# Altium footprint library Time.PcbLib: 1 footprints
Each footprint in its own frame and in the unit in brackets; x right, y up, seen from the top. Pads: shape width x height; smd on the part's side, far side on the other; paste and mask are expansions set on the pad; w line width, h text height; cw(c..) or ccw(c..) is an arc to the next point about the centre after c.
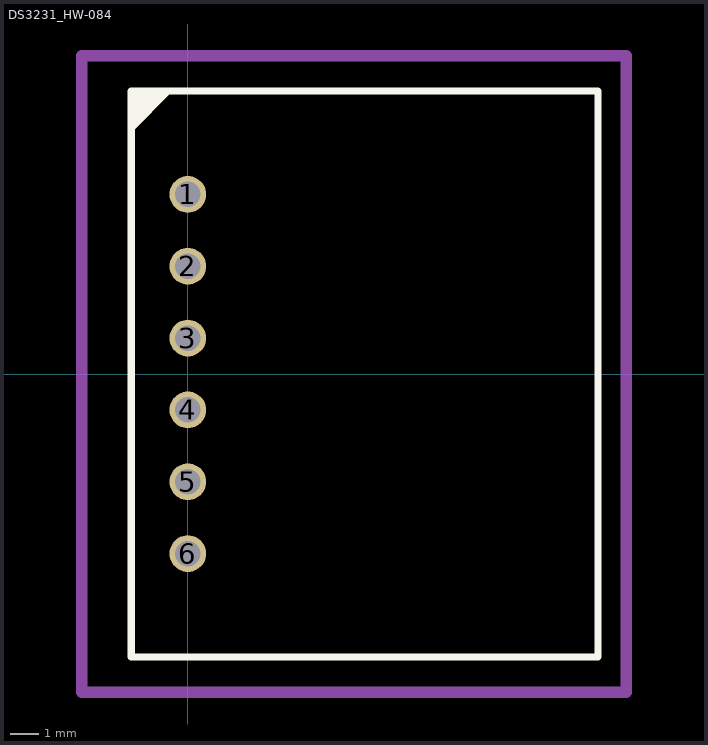
[diagram p0: the footprint, top view; thin cyan lines are the x and y axes]

## DS3231_HW-084 [mm]
pads (6):
  round 1.3 hole 0.9: 1(0,6.35) 2(0,3.81) 3(0,1.27) 4(0,-1.27) 5(0,-3.81) 6(0,-6.35)
Top Overlay:
  lines w0.05: -1.884,9.868 -1.887,9.871 -1.887,9.913 -1.853,9.947 -1.853,9.944 -1.949,9.848 -1.827,9.848 -1.748,9.927 -1.777,9.927 -1.932,9.772 -1.898,9.772 -1.76,9.91 -1.76,9.899 -1.918,9.741 -1.884,9.741 -1.742,9.882 -1.717,9.882 -1.89,9.71 -1.907,9.71 -1.85,9.653 -1.85,9.888 -1.85,9.628 -1.833,9.611 -1.932,9.611 -1.969,9.574 -1.706,9.837 -1.663,9.837 -1.808,9.693 -1.85,9.693 -1.652,9.891 -1.652,9.727 -1.91,9.469 -1.91,9.517 -1.522,9.905 -1.57,9.905 -1.986,9.489 -1.884,9.489 -1.499,9.874 -1.499,9.984
  lines w0.25: -2,8.25 -2,8.708 -0.708,10 -1.026,10 -1.974,9.051 -1.974,9.22 -1.381,9.814 ; -2,-10 -2,10 14.5,10 14.5,-10 -2,-10
Mechanical 15:
  lines w0.4: -3.75,-11.25 -3.75,11.25 15.5,11.25 15.5,-11.25 -3.75,-11.25
3D body "DS3231 RTC.step": height 39.3, standoff -5.45, extent -0.265,-11.5 13.265,11.3